# EAGLE library part ADM3251E (library Bus-isolators)
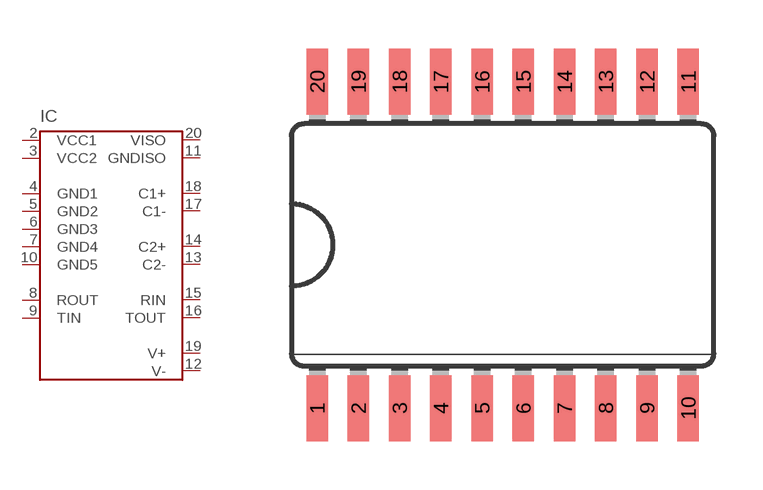
[diagram p0: symbol with the pads of SO20L; footprint SO20L]

Designator prefix IC

## ADM3251E  [SO20L]
2  VCC1  pwr
3  VCC2  pwr
4  GND1  pwr
5  GND2  pwr
6  GND3  pwr
7  GND4  pwr
8  ROUT  out
9  TIN  in
10  GND5  pwr
11  GNDISO  pwr
12  V-  sup
13  C2-
14  C2+
15  RIN  in
16  TOUT  out
17  C1-
18  C1+
19  V+  sup
20  VISO  pwr

## Footprint SO20L (pad centres in mm)
Small Outline Package
smd 0.66 x 2.032: 1 -5.715,-5.029; 2 -4.445,-5.029; 3 -3.175,-5.029; 4 -1.905,-5.029; 5 -0.635,-5.029; 6 0.635,-5.029; 7 1.905,-5.029; 8 3.175,-5.029; 9 4.445,-5.029; 10 5.715,-5.029; 11 5.715,5.029; 12 4.445,5.029; 13 3.175,5.029; 14 1.905,5.029; 15 0.635,5.029; 16 -0.635,5.029; 17 -1.905,5.029; 18 -3.175,5.029; 19 -4.445,5.029; 20 -5.715,5.029